# EAGLE library part RPI-EXPANSION (library raspberrypi)
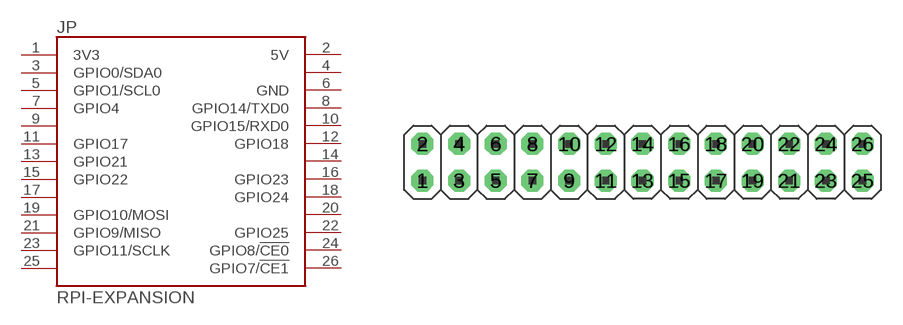
[diagram p0: symbol with the pads of 2X13; footprint 2X13]

Designator prefix JP

## RPI-EXPANSION  [2X13]
1  3V3  pwr
2  5V  pwr
3  GPIO0/SDA0
4  NC0  nc
5  GPIO1/SCL0
6  GND  pwr
7  GPIO4
8  GPIO14/TXD0
9  NC1  nc
10  GPIO15/RXD0
11  GPIO17
12  GPIO18
13  GPIO21
14  NC3  nc
15  GPIO22
16  GPIO23
17  NC4  nc
18  GPIO24
19  GPIO10/MOSI
20  NC5  nc
21  GPIO9/MISO
22  GPIO25
23  GPIO11/SCLK
24  GPIO8/!CE0
25  NC6  nc
26  GPIO7/!CE1

## Footprint 2X13 (pad centres in mm)
PIN HEADER
drill 1.016 octagon: 1 -15.24,-1.27; 2 -15.24,1.27; 3 -12.7,-1.27; 4 -12.7,1.27; 5 -10.16,-1.27; 6 -10.16,1.27; 7 -7.62,-1.27; 8 -7.62,1.27; 9 -5.08,-1.27; 10 -5.08,1.27; 11 -2.54,-1.27; 12 -2.54,1.27; 13 0,-1.27; 14 0,1.27; 15 2.54,-1.27; 16 2.54,1.27; 17 5.08,-1.27; 18 5.08,1.27; 19 7.62,-1.27; 20 7.62,1.27; 21 10.16,-1.27; 22 10.16,1.27; 23 12.7,-1.27; 24 12.7,1.27; 25 15.24,-1.27; 26 15.24,1.27